# EAGLE library part K4B1G04(08/16)46C-128MB (library memory-samsung)
128Mx 72 - 1GB DDR3 SDRAM Source: http://www.samsung.com/global/business/semiconductor/products/dram/downloads/ddr3_product_guide_july_07.pdf
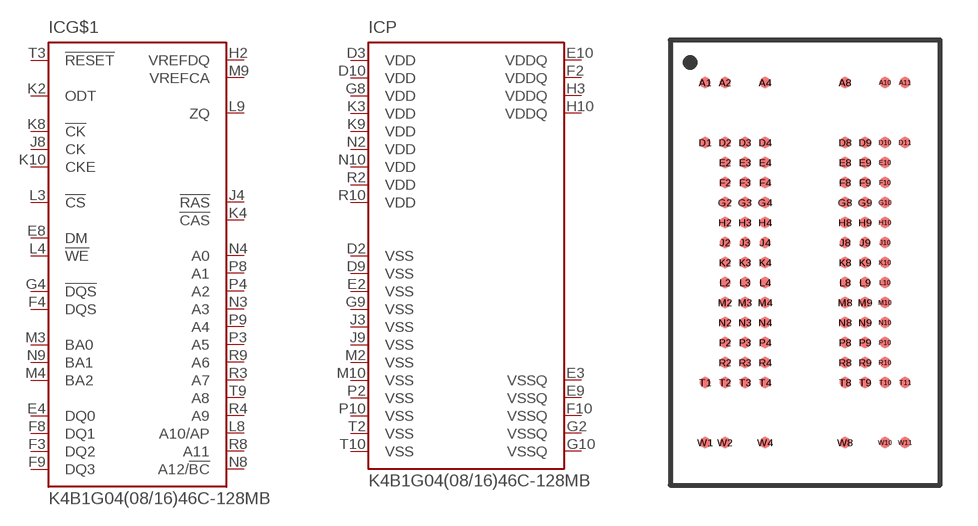
[diagram p0: symbol with the pads of FBGA-94-C; footprint FBGA-94-C]

Designator prefix IC; gates G$1=K4B1G04(08/16)46C-128MB P=K4B1G04(08/16)46C_PWR

## K4B1G04(08/16)46C-128MB (OC_FARNELL: unknown; OC_NEWARK: unknown)  [FBGA-94-C]
D2  P:VSS  in
D3  P:VDD  in
D9  P:VSS  in
D10  P:VDD  in
E2  P:VSS  in
E3  P:VSSQ  in
E4  G$1:DQ0  in
E8  G$1:DM  in
E9  P:VSSQ  in
E10  P:VDDQ  in
F2  P:VDDQ  in
F3  G$1:DQ2  in
F4  G$1:DQS
F8  G$1:DQ1  in
F9  G$1:DQ3  in
F10  P:VSSQ  in
G2  P:VSSQ  in
G4  G$1:!DQS
G8  P:VDD  in
G9  P:VSS  in
G10  P:VSSQ  in
H2  G$1:VREFDQ  in
H3  P:VDDQ  in
H10  P:VDDQ  in
J3  P:VSS  in
J4  G$1:!RAS  in
J8  G$1:CK  in
J9  P:VSS  in
K2  G$1:ODT  in
K3  P:VDD  in
K4  G$1:!CAS  in
K8  G$1:!CK  in
K9  P:VDD  in
K10  G$1:CKE  in
L3  G$1:!CS  in
L4  G$1:!WE  in
L8  G$1:A10/AP  in
L9  G$1:ZQ  in
M2  P:VSS  in
M3  G$1:BA0  in
M4  G$1:BA2  in
M8  G$1:NC  nc
M9  G$1:VREFCA  in
M10  P:VSS  in
N2  P:VDD  in
N3  G$1:A3  in
N4  G$1:A0  in
N8  G$1:A12/!BC  in
N9  G$1:BA1  in
N10  P:VDD  in
P2  P:VSS  in
P3  G$1:A5  in
P4  G$1:A2  in
P8  G$1:A1  in
P9  G$1:A4  in
P10  P:VSS  in
R2  P:VDD  in
R3  G$1:A7  in
R4  G$1:A9  in
R8  G$1:A11  in
R9  G$1:A6  in
R10  P:VDD  in
T2  P:VSS  in
T3  G$1:!RESET  in
T4  G$1:NC  nc
T8  G$1:NC  nc
T9  G$1:A8  in
T10  P:VSS  in

## Footprint FBGA-94-C (pad centres in mm)
94 Ball FBGA for 1Gc C-die (x4/x8) DDR3 SDRAM Source: http://www.samsung.com/global/business/semiconductor/products/dram/downloads/ddr3_product_guide_july_07.pdf
smd 0.45 x 0.45: A1 -4,7.2; A2 -3.2,7.2; A4 -1.6,7.2; A8 1.6,7.2; A10 3.2,7.2; A11 4,7.2; D1 -4,4.8; D2 -3.2,4.8; D3 -2.4,4.8; D4 -1.6,4.8; D8 1.6,4.8; D9 2.4,4.8; D10 3.2,4.8; D11 4,4.8; E2 -3.2,4; E3 -2.4,4; E4 -1.6,4; E8 1.6,4; E9 2.4,4; E10 3.2,4; F2 -3.2,3.2; F3 -2.4,3.2; F4 -1.6,3.2; F8 1.6,3.2; F9 2.4,3.2; F10 3.2,3.2; G2 -3.2,2.4; G3 -2.4,2.4; G4 -1.6,2.4; G8 1.6,2.4; G9 2.4,2.4; G10 3.2,2.4; H2 -3.2,1.6; H3 -2.4,1.6; H4 -1.6,1.6; H8 1.6,1.6; H9 2.4,1.6; H10 3.2,1.6; J2 -3.2,0.8; J3 -2.4,0.8; J4 -1.6,0.8; J8 1.6,0.8; J9 2.4,0.8; J10 3.2,0.8; K2 -3.2,0; K3 -2.4,0; K4 -1.6,0; K8 1.6,0; K9 2.4,0; K10 3.2,0; L2 -3.2,-0.8; L3 -2.4,-0.8; L4 -1.6,-0.8; L8 1.6,-0.8; L9 2.4,-0.8; L10 3.2,-0.8; M2 -3.2,-1.6; M3 -2.4,-1.6; M4 -1.6,-1.6; M8 1.6,-1.6; M9 2.4,-1.6; M10 3.2,-1.6; N2 -3.2,-2.4; N3 -2.4,-2.4; N4 -1.6,-2.4; N8 1.6,-2.4; N9 2.4,-2.4; N10 3.2,-2.4; P2 -3.2,-3.2; P3 -2.4,-3.2; P4 -1.6,-3.2; P8 1.6,-3.2; P9 2.4,-3.2; P10 3.2,-3.2; R2 -3.2,-4; R3 -2.4,-4; R4 -1.6,-4; R8 1.6,-4; R9 2.4,-4; R10 3.2,-4; T1 -4,-4.8; T2 -3.2,-4.8; T3 -2.4,-4.8; T4 -1.6,-4.8; T8 1.6,-4.8; T9 2.4,-4.8; T10 3.2,-4.8; T11 4,-4.8; W1 -4,-7.2; W2 -3.2,-7.2; W4 -1.6,-7.2; W8 1.6,-7.2; W10 3.2,-7.2; W11 4,-7.2